# Altium footprint library Murata.PcbLib: 2 footprints
Each footprint in its own frame and in the unit in brackets; x right, y up, seen from the top. Pads: shape width x height; smd on the part's side, far side on the other; paste and mask are expansions set on the pad; w line width, h text height; cw(c..) or ccw(c..) is an arc to the next point about the centre after c.
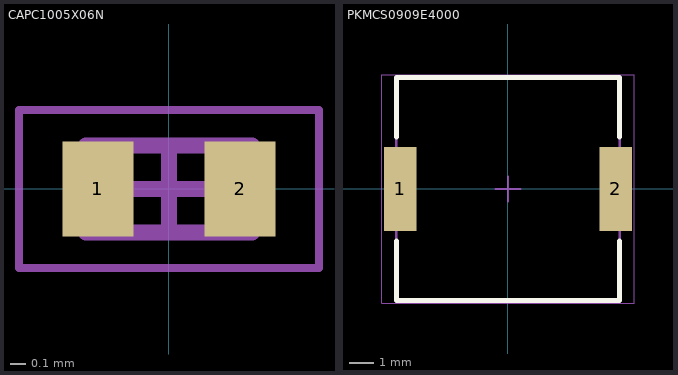
[diagram p0: the footprints below, top view; thin cyan lines are the x and y axes]

## CAPC1005X06N [mm] "Chip Capacitor, 2-Leads, Body 1.00x0.50mm, IPC Medium Density"
height 0.55
pads (2):
  rect 0.45x0.6 smd: 1(-0.45,0) 2(0.45,0)
Mechanical 13:
  lines w0.1: -0.525,-0.275 -0.525,0.275 0.525,0.275 0.525,-0.275 -0.525,-0.275
Mechanical 15:
  lines w0.05: -0.95,-0.5 -0.95,0.5 0.95,0.5 0.95,-0.5 -0.95,-0.5
  lines w0.1: -0.275,0 0.275,0 ; 0,-0.275 0,0.275
3D body "CAPC1005X06N.step": height 0.55, standoff 0, extent -0.525,-0.275 0.525,0.275

## PKMCS0909E4000 [mm] "SMD, 2-Leads, Body 9x9mm"
height 1.9
pads (2):
  rect 1.3x3.4 smd: 1(-4.35,0) 2(4.35,0)
Top Overlay:
  lines w0.2: -4.5,-2.1 -4.5,-4.5 4.5,-4.5 4.5,-2.1 ; -4.5,2.1 -4.5,4.5 4.5,4.5 4.5,2.1
Mechanical 13:
  lines w0.1: -4.5,-4.5 4.5,-4.5 4.5,4.5 -4.5,4.5 -4.5,-4.5
Mechanical 15:
  lines w0.05: -4.5,-4.6 4.5,-4.6 ; -5.1,-4.6 5.1,-4.6 5.1,4.6 -5.1,4.6 -5.1,-4.6
  lines w0.1: -0.5,0 0.5,0 ; 0,-0.5 0,0.5
3D body "PKMCS0909E4000-R1--3DModel-STEP-56544.STEP": height 1.9, standoff 0, extent -4.5,-4.5 4.5,4.5